# Altium schematic symbol library TCA9517Q1.SchLib: 1 symbol
Pins are listed as number, name and electrical type; pins without a type are passive.

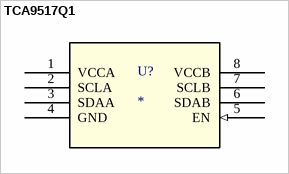
[diagram p0: symbol TCA9517Q1]

## TCA9517Q1
designator U?
footprint TCA9517Q1
pins: 1 VCCA (power), 2 SCLA, 3 SDAA, 4 GND (power), 5 EN (in), 6 SDAB, 7 SCLB, 8 VCCB (power)